# Altium schematic symbol library micr_schematic.SchLib: 11 symbols
Pins are listed as number, name and electrical type; pins without a type are passive.

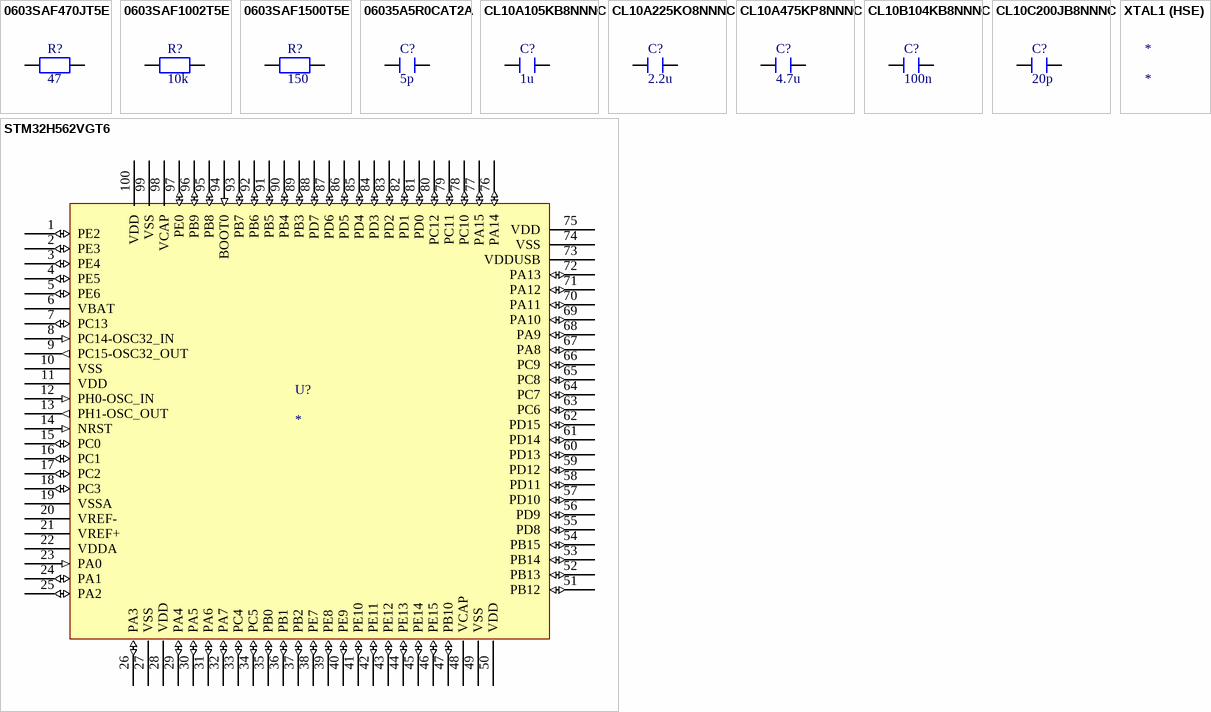
[diagram p0: symbols 0603SAF470JT5E to XTAL1 (HSE)]

## 0603SAF470JT5E
designator R?, comment 47
Resistor SMD 0603 47ohm to VDDA and VREF+; Supplier 1: Mouser; Supplier Part Number 1: 303-0603SAF470JT5E
footprint 0603SAF470JT5E (Resistor SMD 0603 47ohm)
pins: 3, 4

## 0603SAF1002T5E
designator R?, comment 10k
Resistor SMD 0603 10k to BOOT0 and to debug; Supplier 1: Mouser; Supplier Part Number 1: 303-0603SAF1002T5E
footprint 0603SAF1002T5E (Chip Resistor, 2-Leads, Body 1,60x0,80mm, IPC Medium Density)
pins: 3, 4

## 0603SAF1500T5E
designator R?, comment 150
Resistor SMD 0603 150ohm to LED; Supplier 1: Mouser; Supplier Part Number 1: 303-0603SAF1500T5E
pins: 3, 4

## 06035A5R0CAT2A
designator C?, comment 5p
Capacitor SMD 0603 5p to XTAL2; Supplier 1: Arrow Electronics; Supplier Part Number 1: 06035A5R0CAT2A
footprint 06035A5R0CAT2A (Capacitor SMD 0603 5p)
pins: 7, 8

## CL10A105KB8NNNC
designator C?, comment 1u
Capacitor SMD 0603 1u to VDDA, VREF+ and VDDUSB; Supplier 1: Future Electronics; Supplier Part Number 1: CL10A105KB8NNNC
footprint CL10A105KB8NNNC (Capacitor SMD 0603)
pins: 7, 8

## CL10A225KO8NNNC
designator C?, comment 2.2u
Capacitor SMD 0603 2.2u to VCAP; Supplier 1: RS; Supplier Part Number 1: 7664799
footprint CL10A225KO8NNNC (Capacitor SMD 0603 2.2u)
pins: 7, 8

## CL10A475KP8NNNC
designator C?, comment 4.7u
Capacitor SMD 0603 4.7u to VDD; Supplier 1: Future Electronics; Supplier Part Number 1: CL10A475KP8NNNC
footprint CL10A475KP8NNNC (Capacitor SMD 0603 4.7u)
pins: 7, 8

## CL10B104KB8NNNC
designator C?, comment 100n
Capacitor SMD 0603 100n to VDD, VBAT, VDDA, VREF+, VDDUSB, NRST; ComponentLink1Description: New link; ComponentLink1URL: *; Supplier 1: RS; Supplier Part Number 1: 7665443
footprint CL10B104KB8NNNC (Capacitor SMD 0603 100n)
pins: 7, 8

## CL10C200JB8NNNC
designator C?, comment 20p
Capacitor SMD 0603 20p to XTAL1; Supplier 1: RS; Supplier Part Number 1: 2575897
pins: 7, 8

## STM32H562VGT6
designator U?
Microcontroller STM32; Supplier 1: Arrow Electronics; Supplier Part Number 1: STM32H562VGT6
footprint STM32H562VGT6 (Microcontroller STM32)
pins: 1 PE2 (io), 2 PE3 (io), 3 PE4 (io), 4 PE5 (io), 5 PE6 (io), 6 VBAT (power), 7 PC13 (io), 8 PC14-OSC32_IN (in), 9 PC15-OSC32_OUT (out), 10 VSS (power), 11 VDD (power), 12 PH0-OSC_IN (in), 13 PH1-OSC_OUT (out), 14 NRST (in), 15 PC0 (io), 16 PC1 (io), 17 PC2 (io), 18 PC3 (io), 19 VSSA (power), 20 VREF- (power), 21 VREF+ (power), 22 VDDA (power), 23 PA0 (in), 24 PA1 (io), 25 PA2 (io), 26 PA3 (io), 27 VSS (power), 28 VDD (power), 29 PA4 (io), 30 PA5 (io), 31 PA6 (io), 32 PA7 (io), 33 PC4 (io), 34 PC5 (io), 35 PB0 (io), 36 PB1 (io), 37 PB2 (io), 38 PE7 (io), 39 PE8 (io), 40 PE9 (io), 41 PE10 (io), 42 PE11 (io), 43 PE12 (io), 44 PE13 (io), 45 PE14 (io), 46 PE15 (io), 47 PB10 (io), 48 VCAP (power), 49 VSS (power), 50 VDD (oe), 51 PB12 (io), 52 PB13 (io), 53 PB14 (io), 54 PB15 (io), 55 PD8 (io), 56 PD9 (io), 57 PD10 (io), 58 PD11 (io), 59 PD12 (io), 60 PD13 (io), 61 PD14 (io), 62 PD15 (io), 63 PC6 (io), 64 PC7 (io), 65 PC8 (io), 66 PC9 (io), 67 PA8 (io), 68 PA9 (io), 69 PA10 (io), 70 PA11 (io), 71 PA12 (io), 72 PA13 (io), 73 VDDUSB (power), 74 VSS (power), 75 VDD (power), 76 PA14 (io), 77 PA15 (io), 78 PC10 (io), 79 PC11 (io), 80 PC12 (io), 81 PD0 (io), 82 PD1 (io), 83 PD2 (io), 84 PD3 (io), 85 PD4 (io), 86 PD5 (io), 87 PD6 (io), 88 PD7 (io), 89 PB3 (io), 90 PB4 (io), 91 PB5 (io), 92 PB6 (io), 93 PB7 (io), 94 BOOT0 (in), 95 PB8 (io), 96 PB9 (io), 97 PE0 (io), 98 VCAP (power), 99 VSS (power), 100 VDD (power)

## XTAL1 (HSE)
designator *